# Altium integrated library Microchip.IntLib: 2 symbols
Pins are listed as number, name and electrical type; pins without a type are passive.

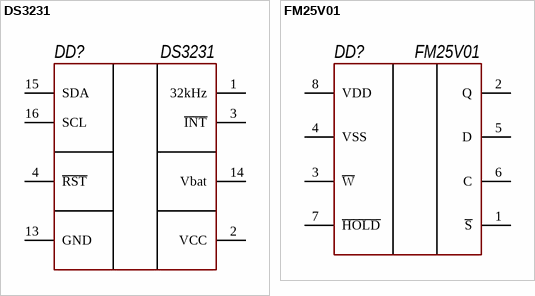
[diagram p0: symbols DS3231 to FM25V01]

## DS3231
designator DD?
footprint SO-16N (SO, 16-Leads, Body 10,30x7,49mm, Pitch 1,27mm, IPC Medium Density)
pins: 1 32kHz, 2 VCC, 3 ~{INT}, 4 ~{RST}, 5 NC hidden to GND, 6 NC hidden to GND, 7 NC hidden to GND, 8 NC hidden to GND, 9 NC hidden to GND, 10 NC hidden to GND, 11 NC hidden to GND, 12 NC hidden, 13 GND, 14 Vbat, 15 SDA, 16 SCL

## FM25V01
designator DD?
footprint SOIC-8
pins: 1 ~{S}, 2 Q, 3 ~{W}, 4 VSS, 5 D, 6 C, 7 ~{HOLD}, 8 VDD